# EAGLE library part MC824 (library dec-con)
RTL Quad NOR Gate
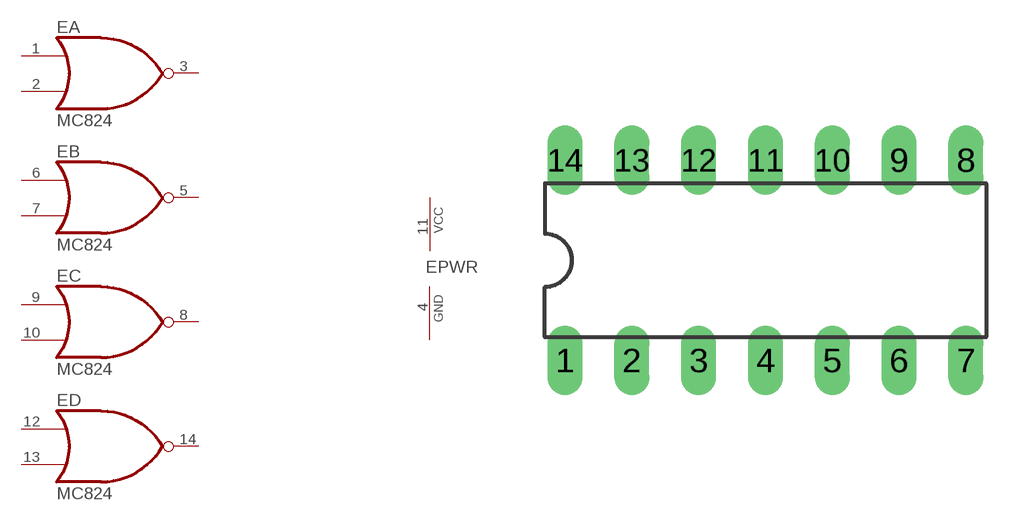
[diagram p45: symbol with the pads of DIL14; footprint DIL14]

Designator prefix E; gates A=NOR2 B=NOR2 C=NOR2 D=NOR2 PWR=PWRN

## MC824P  [DIL14]
1  A:I0  in
2  A:I1  in
3  A:O  out
4  PWR:GND  pwr
5  B:O  out
6  B:I0  in
7  B:I1  in
8  C:O  out
9  C:I0  in
10  C:I1  in
11  PWR:VCC  pwr
12  D:I0  in
13  D:I1  in
14  D:O  out

## Footprint DIL14 (pad centres in mm)
Dual In Line Package
drill 0.813 long: 1 -7.62,-3.81; 2 -5.08,-3.81; 3 -2.54,-3.81; 4 0,-3.81; 5 2.54,-3.81; 6 5.08,-3.81; 7 7.62,-3.81; 8 7.62,3.81; 9 5.08,3.81; 10 2.54,3.81; 11 0,3.81; 12 -2.54,3.81; 13 -5.08,3.81; 14 -7.62,3.81